# Altium footprint library Flip-Chip4.PcbLib: 1 footprints
Each footprint in its own frame and in the unit in brackets; x right, y up, seen from the top. Pads: shape width x height; smd on the part's side, far side on the other; paste and mask are expansions set on the pad; w line width, h text height; cw(c..) or ccw(c..) is an arc to the next point about the centre after c.
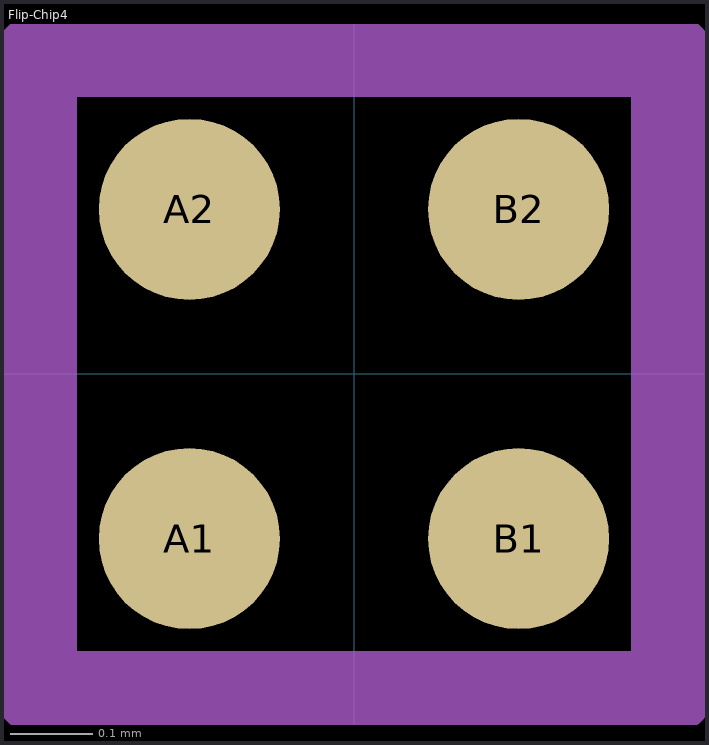
[diagram p0: the footprint, top view; thin cyan lines are the x and y axes]

## Flip-Chip4 [mm]
height 0.56
pads (4):
  round 0.22 smd: A1(-0.2,-0.2) A2(-0.2,0.2) B1(0.2,-0.2) B2(0.2,0.2)
Mechanical 1:
  lines w0.1: -0.387,-0.387 0.386,-0.387 0.386,0.386 -0.387,0.386 -0.387,-0.387
3D body: height 0.2, standoff -0.02, extent -0.303,0.092 -0.09,0.309
3D body: height 0.2, standoff -0.02, extent 0.097,0.092 0.31,0.309
3D body: height 0.2, standoff -0.02, extent 0.1,-0.308 0.314,-0.092
3D body: height 0.2, standoff -0.02, extent -0.3,-0.308 -0.086,-0.091
3D body: height 0.36, standoff 0.11, extent -0.387,-0.387 0.386,0.386